# Altium schematic symbol library SMD Resistors 0805.SchLib: 69 symbols
Pins are listed as number, name and electrical type; pins without a type are passive.

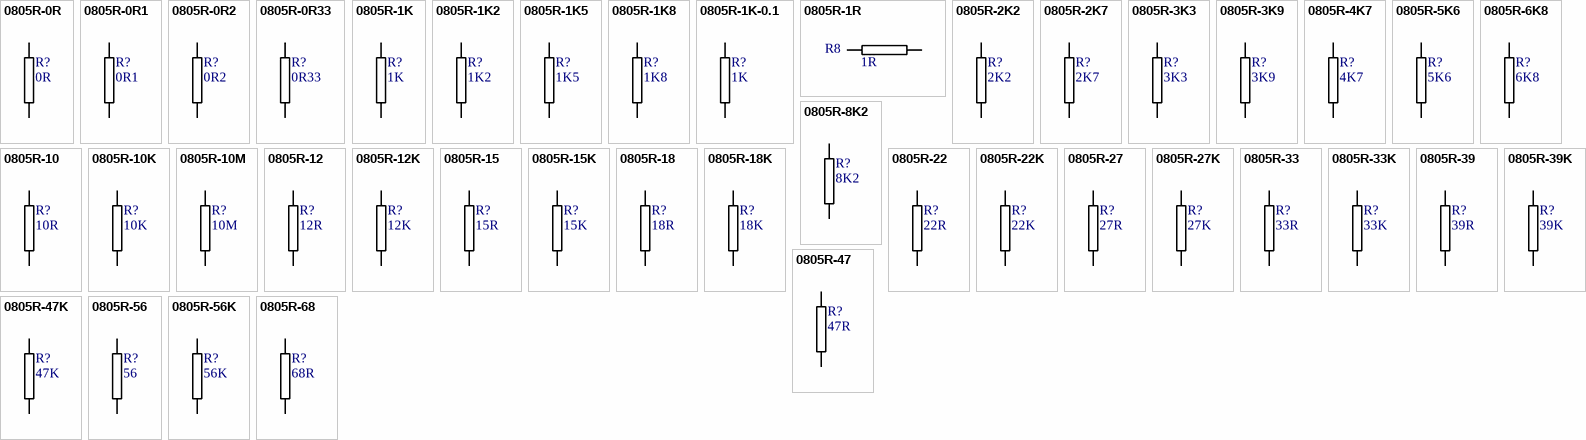
[diagram p0: symbols 0805R-0R to 0805R-68]

## 0805R-0R
designator R?, comment 0R
RESISTOR 0805 1 WATT
footprint 0805R-GENERIC (RESISTOR 0805)
pins: 1, 2

## 0805R-0R1
designator R?, comment 0R1
RESISTOR 0805 1 WATT; Manufacturer Part Number: RL1220S-R10-F; Manufacturer: Susumu; Description: RES .10 OHM 1/4W 1% 0805 SMD; Reel: *; Supplier 1: Digi-Key; Supplier Part Number 1: RL12S.10FTR-ND
footprint 0805R-0R1 (Footprint not found)
pins: 1, 2

## 0805R-0R2
designator R?, comment 0R2
RESISTOR 0805 1 WATT; Reel: *; Supplier 1: Digi-Key; Supplier Part Number 1: 311-.20STR-ND
footprint 0805R-0R1 (Footprint not found)
pins: 1, 2

## 0805R-0R33
designator R?, comment 0R33
RESISTOR 0805 1 WATT; Reel: *; Supplier 1: Digi-Key; Supplier Part Number 1: 311-.33STR-ND
footprint 0805R-0R1 (Footprint not found)
pins: 1, 2

## 0805R-1K
designator R?, comment 1K
RESISTOR 0805 1/4 WATT THIN FILM; Reel: *
footprint 0805R-1K (RESISTOR 0805)
pins: 1, 2

## 0805R-1K2
designator R?, comment 1K2
RESISTOR 0805 1/4 WATT THIN FILM; Reel: *
footprint 0805R-1K2 (RESISTOR 0805)
pins: 1, 2

## 0805R-1K5
designator R?, comment 1K5
RESISTOR 0805 1/4 WATT THIN FILM; Reel: *
footprint 0805R-1K5 (RESISTOR 0805)
pins: 1, 2

## 0805R-1K8
designator R?, comment 1K8
RESISTOR 0805 1/4 WATT THIN FILM; Reel: *
footprint 0805R-1K8 (RESISTOR 0805)
pins: 1, 2

## 0805R-1K-0.1
designator R?, comment 1K
RESISTOR 0805 1/4 WATT THIN FILM 0.1%; Reel: *
footprint 0805R-1K (RESISTOR 0805)
pins: 1, 2

## 0805R-1R
designator R8, comment 1R
RESISTOR 0805 1/3 WATT; REEL: R84; Supplier 1: Digi-Key; Supplier Part Number 1: 541-1.0TADKR-ND
footprint 0805R-GENERIC (RESISTOR 0805)
pins: 1, 2

## 0805R-2K2
designator R?, comment 2K2
RESISTOR 0805 1/4 WATT THIN FILM; Reel: *
footprint 0805R-2K2 (RESISTOR 0805)
pins: 1, 2

## 0805R-2K7
designator R?, comment 2K7
RESISTOR 0805 1/4 WATT THIN FILM; Reel: *
footprint 0805R-2K7 (RESISTOR 0805)
pins: 1, 2

## 0805R-3K3
designator R?, comment 3K3
RESISTOR 0805 1/4 WATT THIN FILM; Reel: *
footprint 0805R-3K3 (RESISTOR 0805)
pins: 1, 2

## 0805R-3K9
designator R?, comment 3K9
RESISTOR 0805 1/4 WATT THIN FILM; Reel: *
footprint 0805R-3K9 (RESISTOR 0805)
pins: 1, 2

## 0805R-4K7
designator R?, comment 4K7
RESISTOR 0805 1/4 WATT THIN FILM; Reel: *
footprint 0805R-4K7 (RESISTOR 0805)
pins: 1, 2

## 0805R-5K6
designator R?, comment 5K6
RESISTOR 0805 1/4 WATT THIN FILM; Reel: *
footprint 0805R-5K6 (RESISTOR 0805)
pins: 1, 2

## 0805R-6K8
designator R?, comment 6K8
RESISTOR 0805 1/4 WATT THIN FILM; Reel: *
footprint 0805R-6K8 (RESISTOR 0805)
pins: 1, 2

## 0805R-8K2
designator R?, comment 8K2
RESISTOR 0805 1/4 WATT THIN FILM; Reel: *
footprint 0805R-8K2 (RESISTOR 0805)
pins: 1, 2

## 0805R-10
designator R?, comment 10R
RESISTOR 0805 1/4 WATT THIN FILM; Reel: *
footprint 0805R-10 (RESISTOR 0805)
pins: 1, 2

## 0805R-10K
designator R?, comment 10K
RESISTOR 0805 1/4 WATT THIN FILM; Reel: *
footprint 0805R-10K (RESISTOR 0805)
pins: 1, 2

## 0805R-10M
designator R?, comment 10M
RESISTOR 0805 VALUE TO BE DETERMINED; Supplier 1: Digi-Key; Supplier Part Number 1: HVCB0805FKL10M0-ND
footprint 0805R-TBD (RESISTOR 0805 VALUE TO BE DETERMINED)
pins: 1, 2

## 0805R-12
designator R?, comment 12R
RESISTOR 0805 1/4 WATT THIN FILM; Reel: *
footprint 0805R-12 (RESISTOR 0805)
pins: 1, 2

## 0805R-12K
designator R?, comment 12K
RESISTOR 0805 1/4 WATT THIN FILM; Reel: *
footprint 0805R-12K (RESISTOR 0805)
pins: 1, 2

## 0805R-15
designator R?, comment 15R
RESISTOR 0805 1/4 WATT THIN FILM; Reel: *
footprint 0805R-15 (RESISTOR 0805)
pins: 1, 2

## 0805R-15K
designator R?, comment 15K
RESISTOR 0805 1/4 WATT THIN FILM; Reel: *
footprint 0805R-15K (RESISTOR 0805)
pins: 1, 2

## 0805R-18
designator R?, comment 18R
RESISTOR 0805 1/4 WATT THIN FILM; Reel: *
footprint 0805R-18 (RESISTOR 0805)
pins: 1, 2

## 0805R-18K
designator R?, comment 18K
RESISTOR 0805 1/4 WATT THIN FILM; Reel: *
footprint 0805R-18K (RESISTOR 0805)
pins: 1, 2

## 0805R-22
designator R?, comment 22R
RESISTOR 0805 1/4 WATT THIN FILM; Reel: *
footprint 0805R-22 (RESISTOR 0805)
pins: 1, 2

## 0805R-22K
designator R?, comment 22K
RESISTOR 0805 1/4 WATT THIN FILM; Reel: *
footprint 0805R-22K (RESISTOR 0805)
pins: 1, 2

## 0805R-27
designator R?, comment 27R
RESISTOR 0805 1/4 WATT THIN FILM; Reel: *
footprint 0805R-27 (RESISTOR 0805)
pins: 1, 2

## 0805R-27K
designator R?, comment 27K
RESISTOR 0805 1/4 WATT THIN FILM; Reel: *
footprint 0805R-27K (RESISTOR 0805)
pins: 1, 2

## 0805R-33
designator R?, comment 33R
RESISTOR 0805 1/4 WATT THIN FILM; Reel: *
footprint 0805R-33 (RESISTOR 0805)
pins: 1, 2

## 0805R-33K
designator R?, comment 33K
RESISTOR 0805 1/4 WATT THIN FILM; Reel: *
footprint 0805R-33K (RESISTOR 0805)
pins: 1, 2

## 0805R-39
designator R?, comment 39R
RESISTOR 0805 1/4 WATT THIN FILM; Reel: *
footprint 0805R-39 (RESISTOR 0805)
pins: 1, 2

## 0805R-39K
designator R?, comment 39K
RESISTOR 0805 1/4 WATT THIN FILM; Reel: R85; Supplier 1: Digi-Key; Supplier Part Number 1: P39.0KHTR-ND
footprint 0805R-39K (RESISTOR 0805)
pins: 1, 2

## 0805R-47
designator R?, comment 47R
RESISTOR 0805 1/4 WATT THIN FILM; Reel: *
footprint 0805R-47 (RESISTOR 0805)
pins: 1, 2

## 0805R-47K
designator R?, comment 47K
RESISTOR 0805 1/4 WATT THIN FILM
footprint 0805R-47K (RESISTOR 0805)
pins: 1, 2

## 0805R-56
designator R?, comment 56
RESISTOR 0805 1/4 WATT THIN FILM; Reel: *
footprint 0805R-56 (RESISTOR 0805)
pins: 1, 2

## 0805R-56K
designator R?, comment 56K
RESISTOR 0805 1/4 WATT THIN FILM; Reel: *
footprint 0805R-56K (RESISTOR 0805)
pins: 1, 2

## 0805R-68
designator R?, comment 68R
RESISTOR 0805 1/4 WATT THIN FILM; Reel: *
footprint 0805R-68 (RESISTOR 0805)
pins: 1, 2

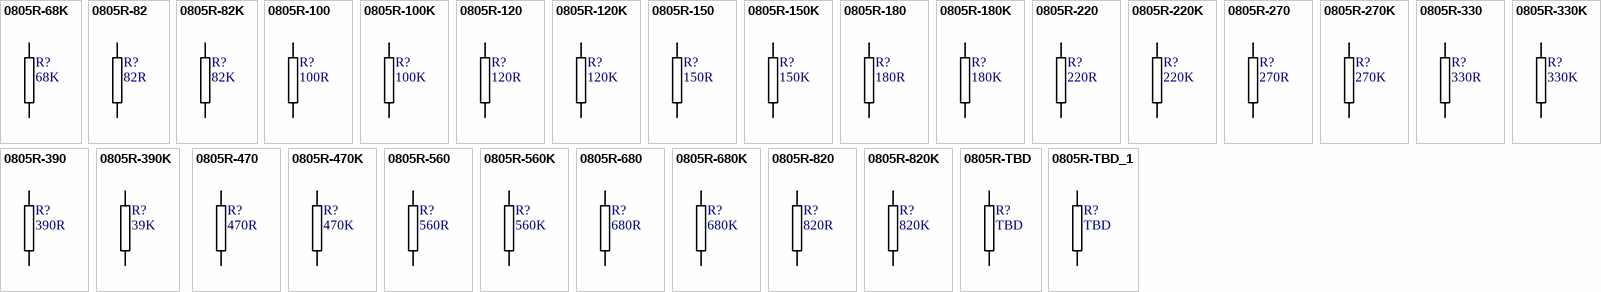
[diagram p1: symbols 0805R-68K to 0805R-TBD_1]

## 0805R-68K
designator R?, comment 68K
RESISTOR 0805 1/4 WATT THIN FILM; Reel: *
footprint 0805R-68K (RESISTOR 0805)
pins: 1, 2

## 0805R-82
designator R?, comment 82R
RESISTOR 0805 1/4 WATT THIN FILM; Reel: *
footprint 0805R-82K (RESISTOR 0805)
pins: 1, 2

## 0805R-82K
designator R?, comment 82K
RESISTOR 0805 1/4 WATT THIN FILM; Reel: *
footprint 0805R-82K (RESISTOR 0805)
pins: 1, 2

## 0805R-100
designator R?, comment 100R
RESISTOR 0805 1/4 WATT THIN FILM; Reel: *
footprint 0805R-100 (RESISTOR 0805)
pins: 1, 2

## 0805R-100K
designator R?, comment 100K
RESISTOR 0805 1/4 WATT THIN FILM; Reel: *; Supplier 1: Digi-Key; Supplier Part Number 1: RMCF0805FT100KTR-ND
footprint 0805R-100K (RESISTOR 0805)
pins: 1, 2

## 0805R-120
designator R?, comment 120R
RESISTOR 0805 1/4 WATT THIN FILM; Reel: *
footprint 0805R-120 (RESISTOR 0805)
pins: 1, 2

## 0805R-120K
designator R?, comment 120K
RESISTOR 0805 1/4 WATT THIN FILM; Reel: *
footprint 0805R-120K (RESISTOR 0805)
pins: 1, 2

## 0805R-150
designator R?, comment 150R
RESISTOR 0805 1/4 WATT THIN FILM; Reel: *
footprint 0805R-150 (RESISTOR 0805)
pins: 1, 2

## 0805R-150K
designator R?, comment 150K
RESISTOR 0805 1/4 WATT THIN FILM; Reel: *
footprint 0805R-150K (RESISTOR 0805)
pins: 1, 2

## 0805R-180
designator R?, comment 180R
RESISTOR 0805 1/4 WATT THIN FILM; Reel: *
footprint 0805R-180 (RESISTOR 0805)
pins: 1, 2

## 0805R-180K
designator R?, comment 180K
RESISTOR 0805 1/4 WATT THIN FILM; Reel: *
footprint 0805R-180K (RESISTOR 0805)
pins: 1, 2

## 0805R-220
designator R?, comment 220R
RESISTOR 0805 1/4 WATT THIN FILM; Reel: *
footprint 0805R-220 (RESISTOR 0805)
pins: 1, 2

## 0805R-220K
designator R?, comment 220K
RESISTOR 0805 1/4 WATT THIN FILM; Reel: *
footprint 0805R-220K (RESISTOR 0805)
pins: 1, 2

## 0805R-270
designator R?, comment 270R
RESISTOR 0805 1/4 WATT THIN FILM; Reel: *
footprint 0805R-270 (RESISTOR 0805)
pins: 1, 2

## 0805R-270K
designator R?, comment 270K
RESISTOR 0805 1/4 WATT THIN FILM; Reel: *
footprint 0805R-270K (RESISTOR 0805)
pins: 1, 2

## 0805R-330
designator R?, comment 330R
RESISTOR 0805 1/4 WATT THIN FILM; Reel: *
footprint 0805R-330 (RESISTOR 0805)
pins: 1, 2

## 0805R-330K
designator R?, comment 330K
RESISTOR 0805 1/4 WATT THIN FILM; Reel: *
footprint 0805R-330K (RESISTOR 0805)
pins: 1, 2

## 0805R-390
designator R?, comment 390R
RESISTOR 0805 1/4 WATT THIN FILM; Reel: *
footprint 0805R-390 (RESISTOR 0805)
pins: 1, 2

## 0805R-390K
designator R?, comment 39K
RESISTOR 0805 1/4 WATT THIN FILM; Reel: *
footprint 0805R-390K (RESISTOR 0805)
pins: 1, 2

## 0805R-470
designator R?, comment 470R
RESISTOR 0805 1/4 WATT THIN FILM; Reel: *
footprint 0805R-470 (RESISTOR 0805)
pins: 1, 2

## 0805R-470K
designator R?, comment 470K
RESISTOR 0805 1/4 WATT THIN FILM; Reel: *
footprint 0805R-470K (RESISTOR 0805)
pins: 1, 2

## 0805R-560
designator R?, comment 560R
RESISTOR 0805 1/4 WATT THIN FILM; Reel: *
footprint 0805R-560 (RESISTOR 0805)
pins: 1, 2

## 0805R-560K
designator R?, comment 560K
RESISTOR 0805 1/4 WATT THIN FILM; Reel: *
footprint 0805R-560K (RESISTOR 0805)
pins: 1, 2

## 0805R-680
designator R?, comment 680R
RESISTOR 0805 1/4 WATT THIN FILM; Reel: *
footprint 0805R-680 (RESISTOR 0805)
pins: 1, 2

## 0805R-680K
designator R?, comment 680K
RESISTOR 0805 1/4 WATT THIN FILM; Reel: *
footprint 0805R-680K (RESISTOR 0805)
pins: 1, 2

## 0805R-820
designator R?, comment 820R
RESISTOR 0805 1/4 WATT THIN FILM; Reel: *
footprint 0805R-820 (RESISTOR 0805)
pins: 1, 2

## 0805R-820K
designator R?, comment 820K
RESISTOR 0805 1/4 WATT THIN FILM; Reel: *
footprint 0805R-820K (RESISTOR 0805)
pins: 1, 2

## 0805R-TBD
designator R?, comment TBD
RESISTOR 0805 VALUE TO BE DETERMINED
footprint 0805R-TBD (RESISTOR 0805 VALUE TO BE DETERMINED)
pins: 1, 2

## 0805R-TBD_1
designator R?, comment TBD
RESISTOR 0805 VALUE TO BE DETERMINED
footprint 0805R-TBD (RESISTOR 0805 VALUE TO BE DETERMINED)
pins: 1, 2